# EAGLE library part UEXT (library laforge)
UEXT header as used by lots of Olimex designs
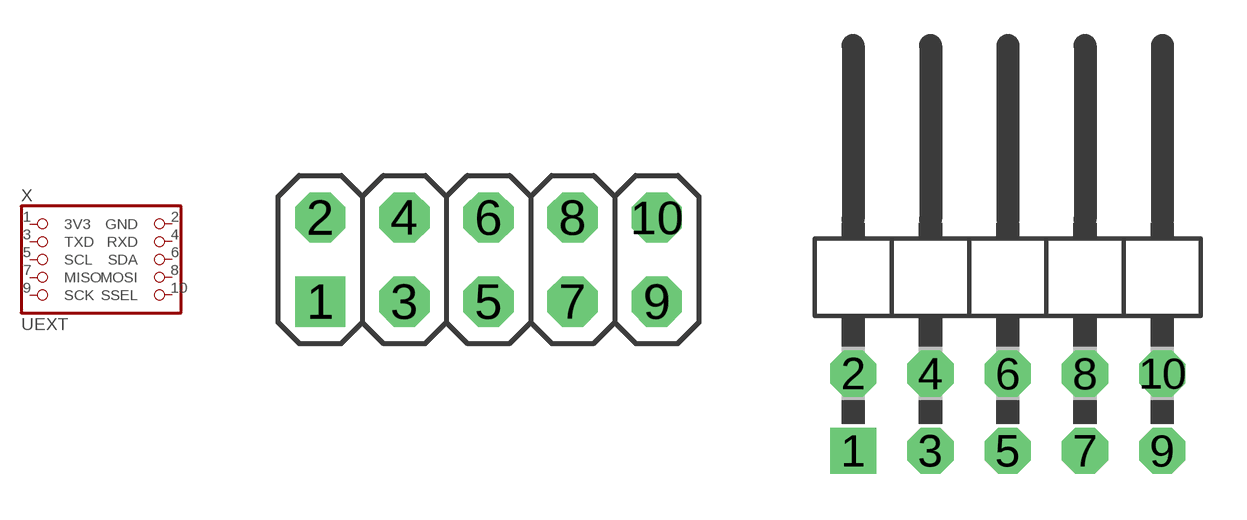
[diagram p38: symbol with the pads of 2X05; footprints 2X05, 2X05/90]

Designator prefix X

## UEXT  [2X05]
1  3V3  pas
2  GND  pas
3  TXD  pas
4  RXD  pas
5  SCL  pas
6  SDA  pas
7  MISO  pas
8  MOSI  pas
9  SCK  pas
10  SSEL  pas

## UEXT/90  [2X05/90]
Pads as for 2X05

## UEXT/SMD/90  [2X05_SMD_90]
Pads as for 2X05

## UEXT/90-WUE  [2X05/90-WUERTH]
Pads as for 2X05

## Footprint 2X05 (pad centres in mm)
PIN HEADER
drill 1.016 square: 1 -5.08,-1.27
drill 1.016 octagon: 2 -5.08,1.27; 3 -2.54,-1.27; 4 -2.54,1.27; 5 0,-1.27; 6 0,1.27; 7 2.54,-1.27; 8 2.54,1.27; 9 5.08,-1.27; 10 5.08,1.27

## Footprint 2X05/90 (pad centres in mm)
PIN HEADER
drill 1.016 square: 1 -5.08,-6.35
drill 1.016 octagon: 2 -5.08,-3.81; 3 -2.54,-6.35; 4 -2.54,-3.81; 5 0,-6.35; 6 0,-3.81; 7 2.54,-6.35; 8 2.54,-3.81; 9 5.08,-6.35; 10 5.08,-3.81

## Footprint 2X05_SMD_90 (pad centres in mm)
smd 1.3 x 3.2: 1 5.08,2.9; 2 5.08,-2.9; 3 2.54,2.9; 4 2.54,-2.9; 5 0,2.9; 6 0,-2.9; 7 -2.54,2.9; 8 -2.54,-2.9; 9 -5.08,2.9; 10 -5.08,-2.9

## Footprint 2X05/90-WUERTH (pad centres in mm)
drill 1.1 square: 1 -5.084,-7.614
drill 1.1 octagon: 2 -5.084,-5.074; 3 -2.544,-7.614; 4 -2.544,-5.074; 5 -0.004,-7.614; 6 -0.004,-5.074; 7 2.536,-7.614; 8 2.536,-5.074; 9 5.076,-7.614; 10 5.076,-5.074